# Altium footprint library PASSIVE_THD.PCBLIB: 248 footprints (part 3 of 16)
Each footprint in its own frame and in the unit in brackets; x right, y up, seen from the top. Pads: shape width x height; smd on the part's side, far side on the other; paste and mask are expansions set on the pad; w line width, h text height; cw(c..) or ccw(c..) is an arc to the next point about the centre after c.
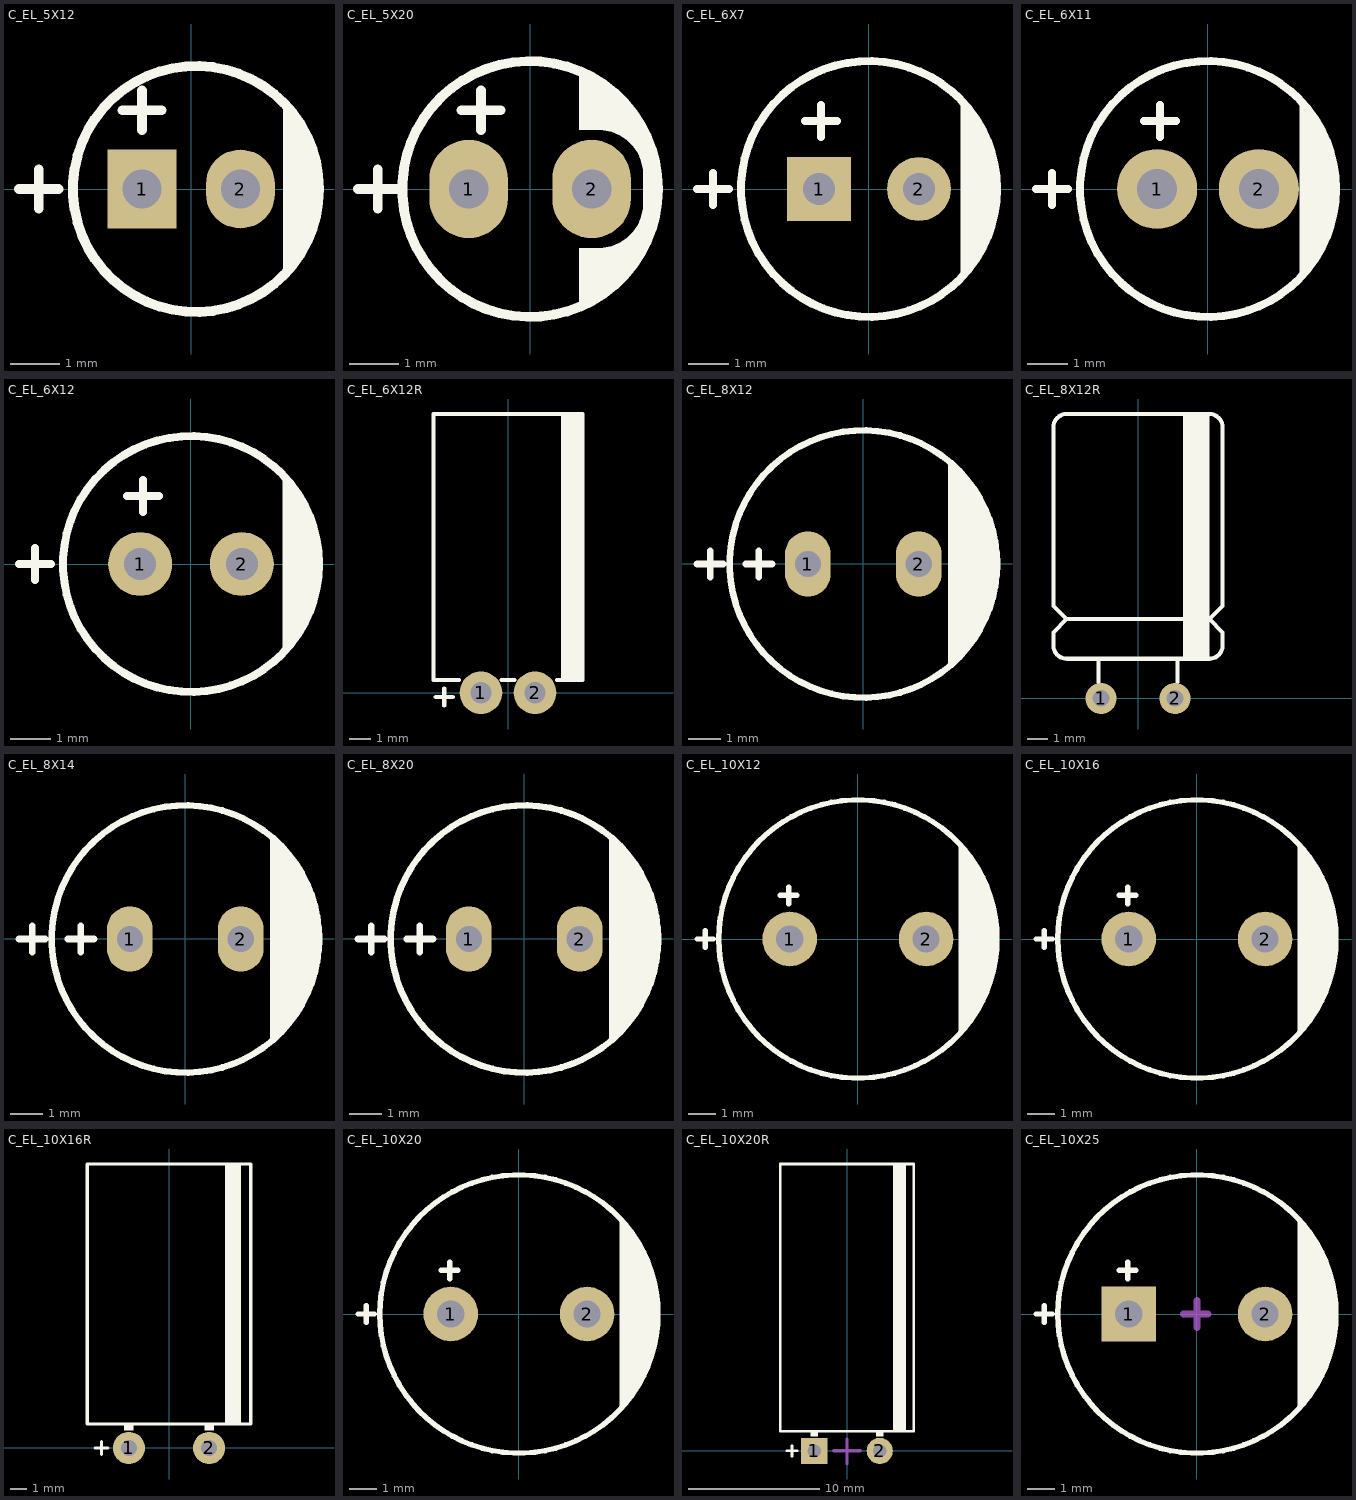
[diagram p2: the footprints below, top view; thin cyan lines are the x and y axes]

## C_EL_5X12 [mm] "Capacitor Electrolythic, D5X12H pitch: 2mm"
height 12
pads (2):
  rect 1.4x1.6 hole 0.8: 1(-1,0)
  oval 1.4x1.6 hole 0.8: 2(1,0)
TopOverlay:
  circle w0.2: c0.096,0 r2.5
  region: 1.865,-1.764 1.865,1.764 2.039,1.59 2.312,1.182 2.5,0.728 2.596,0.246 2.596,0 2.596,-0.246 2.5,-0.728 2.312,-1.182 2.039,-1.59
  lines w0.2: -3.5,0 -2.7,0 ; -3.1,-0.4 -3.1,0.4 ; -1.4,1.6 -0.6,1.6 ; -1,1.2 -1,2
3D body "User Library-CAP-EL5X12_R100_D200_H460.STEP": height 12.05, standoff -3.05, extent -2.54,-2.536 2.538,2.536

## C_EL_5X20 [mm] "Capacitor Electrolythic, D5X20H pitch: 2.5mm"
pads (2):
  oval 1.6x2 hole 0.8: 1(-1.25,0) 2(1.25,0)
TopOverlay:
  circle w0.2: c0,0 r2.6
  region: 1,-2.4 1,-1.2 1.4,-1.2 1.488,-1.196 1.661,-1.161 1.824,-1.094 1.971,-0.996 2.096,-0.871 2.194,-0.724 2.261,-0.561 2.296,-0.388 2.3,-0.3 2.3,0 2.6,0 2.6,-0.048 2.6,-0.298 2.502,-0.789 2.311,-1.251 2.033,-1.667 1.856,-1.844 1.8,-1.9
  region: 1,2.4 1,1.2 1.4,1.2 1.488,1.196 1.661,1.161 1.824,1.094 1.971,0.996 2.096,0.871 2.194,0.724 2.261,0.561 2.296,0.388 2.3,0.3 2.3,0 2.6,0 2.6,0.048 2.6,0.298 2.502,0.789 2.311,1.251 2.033,1.667 1.856,1.844 1.8,1.9
  lines w0.2: -3.5,0 -2.7,0 ; -3.1,-0.4 -3.1,0.4 ; -1.4,1.6 -0.6,1.6 ; -1,1.2 -1,2
3D body "CircuitWorks-ELECTROLITIC CAPACITOR RADIAL 5X11.SLDPRT": height 11.05, standoff -2.45, extent -2.5,-2.5 2.5,2.5

## C_EL_6X7 [mm] "Capacitor Electrolythic, D6.3X7.0H pitch: 2.5mm"
height 7
pads (2):
  rect 1.6x1.6 hole 0.8: 1(-1.25,0)
  round 1.6 hole 0.8: 2(1.25,0)
TopOverlay:
  circle w0.2: c0,0 r3.2
  region: 2.3,2.2 2.456,2.044 2.633,1.867 2.911,1.451 3.102,0.989 3.2,0.498 3.2,0.248 3.2,-0.248 3.2,-0.498 3.102,-0.989 2.911,-1.451 2.633,-1.867 2.456,-2.044 2.3,-2.2
  lines w0.2: -4.3,0 -3.5,0 ; -3.9,-0.4 -3.9,0.4 ; -1.6,1.7 -0.8,1.7 ; -1.2,1.3 -1.2,2.1
3D body "User Library-Cap electrolitic radial 6x7.STEP": height 7.3, standoff -1.2, extent -2.994,-2.993 2.999,3

## C_EL_6X11 [mm] "Cap Elec, D6.3X11.0H pitch: 2.5mm"
height 11
pads (2):
  round 2 hole 1: 1(-1.27,0) 2(1.27,0)
TopOverlay:
  circle w0.2: c0,0 r3.2
  region: 2.3,2.2 2.456,2.044 2.633,1.867 2.911,1.451 3.102,0.989 3.2,0.498 3.2,0.248 3.2,-0.248 3.2,-0.498 3.102,-0.989 2.911,-1.451 2.633,-1.867 2.456,-2.044 2.3,-2.2
  lines w0.2: -4.3,0 -3.5,0 ; -3.9,-0.4 -3.9,0.4 ; -1.6,1.7 -0.8,1.7 ; -1.2,1.3 -1.2,2.1
3D body "SW3dPS-Cap electro 6.3x11x2.5mm.STEP": height 2.51, standoff -12.03, extent -3.168,-3.175 3.175,3.176

## C_EL_6X12 [mm] "Capacitor Electrolythic, D6.3X12H pitch: 2.5mm"
height 12
pads (2):
  round 1.6 hole 0.8: 1(-1.27,0) 2(1.27,0)
TopOverlay:
  circle w0.2: c0,0 r3.2
  region: 2.3,2.2 2.456,2.044 2.633,1.867 2.911,1.451 3.102,0.989 3.2,0.498 3.2,0.248 3.2,-0.248 3.2,-0.498 3.102,-0.989 2.911,-1.451 2.633,-1.867 2.456,-2.044 2.3,-2.2
  lines w0.2: -4.3,0 -3.5,0 ; -3.9,-0.4 -3.9,0.4 ; -1.6,1.7 -0.8,1.7 ; -1.2,1.3 -1.2,2.1
3D body "User Library-Cap-EL(6_3x12-2_5).step": height 1.2, standoff -14, extent -3.14,-3.095 3.162,3.201

## C_EL_6X12R [mm] "Capacitor Electrolythic, D6.3X12.0H pitch: 2.5mm"
height 11
pads (2):
  round 2 hole 1: 1(-1.27,0) 2(1.27,0)
TopOverlay:
  rectangle: 2.5,0.6 3.5,13.1
  lines w0.2: -3.4,-0.2 -2.6,-0.2 ; -3,-0.6 -3,0.2 ; -2.3,0.6 -3.5,0.6 -3.5,13.1 3.5,13.1 3.5,0.6 2.3,0.6 ; -0.3,0.6 0.3,0.6
3D body "CAPAE250P680X1220_FLAT1.STEP": height 6.77, standoff -1.78, extent -3.372,-0.249 3.371,12.952

## C_EL_8X12 [mm] "Capacitor Electrolythic, D8.0X12.0H pitch: 3.5mm"
height 12
pads (2):
  oval 1.4x2 hole 0.8: 1(-1.7,0) 2(1.7,0)
TopOverlay:
  circle w0.2: c0,0 r4.1
  region: 2.6,3.172 2.775,3.028 3.092,2.703 3.371,2.346 3.609,1.959 3.803,1.549 3.951,1.12 4.05,0.678 4.1,0.227 4.1,0 2.6,0
  region: 2.6,-3.172 2.775,-3.028 3.092,-2.703 3.371,-2.346 3.609,-1.959 3.803,-1.549 3.951,-1.12 4.05,-0.678 4.1,-0.227 4.1,0 2.6,0
  lines w0.2: -5.1,0 -4.3,0 ; -4.7,-0.4 -4.7,0.4 ; -3.6,0 -2.8,0 ; -3.2,-0.4 -3.2,0.4
3D body "User Library-Cap electro 8x11_5x3_5mm.step": height 2.98, standoff -12.53, extent -4.017,-4.025 4.025,4.025

## C_EL_8X12R [mm] "Cap Elec, D8.0X12.0H pitch: 3.5mm, RIGHT ANGLE"
pads (2):
  round 1.5 hole 0.8: 1(-1.778,0) 2(1.778,0)
TopOverlay:
  region: 2.159,13.67 2.159,1.905 3.429,1.905 3.429,13.67
  lines w0.2: -1.905,0.762 -1.905,1.905 ; 1.905,0.787 1.905,1.905 ; -3.429,3.81 -4.064,4.445 -4.064,13.035 cw(c-3.429,13.035) -3.429,13.67 3.429,13.67 cw(c3.429,13.035) 4.064,13.035 4.064,4.445 3.429,3.81 ; -3.429,3.81 -4.064,3.175 -4.064,2.54 ccw(c-3.429,2.54) -3.429,1.905 3.429,1.905 ccw(c3.429,2.54) 4.064,2.54 4.064,3.175 3.429,3.81 ; -3.429,3.81 3.429,3.81
3D body "User Library-Cap electro 8x11_5x3_5mm RA.step": height 8.03, standoff -2, extent -4.025,-0.3 4.025,13.521

## C_EL_8X14 [mm] "Capacitor Electrolythic, D8X14H pitch: 3.5mm"
height 14
pads (2):
  oval 1.4x2 hole 0.8: 1(-1.7,0) 2(1.7,0)
TopOverlay:
  circle w0.2: c0,0 r4.1
  region: 2.6,3.172 2.775,3.028 3.092,2.703 3.371,2.346 3.609,1.959 3.803,1.549 3.951,1.12 4.05,0.678 4.1,0.227 4.1,0 2.6,0
  region: 2.6,-3.172 2.775,-3.028 3.092,-2.703 3.371,-2.346 3.609,-1.959 3.803,-1.549 3.951,-1.12 4.05,-0.678 4.1,-0.227 4.1,0 2.6,0
  lines w0.2: -5.1,0 -4.3,0 ; -4.7,-0.4 -4.7,0.4 ; -3.6,0 -2.8,0 ; -3.2,-0.4 -3.2,0.4
3D body "User Library-CAP-EL8X14_R150_D320_H570.STEP": height 14.6, standoff -2.7, extent -4.095,-4.1 4.1,4.1

## C_EL_8X20 [mm] "Capacitor Electrolythic, D8X14H pitch: 3.5mm"
height 14
pads (2):
  oval 1.4x2 hole 0.8: 1(-1.7,0) 2(1.7,0)
TopOverlay:
  circle w0.2: c0,0 r4.1
  region: 2.6,3.172 2.775,3.028 3.092,2.703 3.371,2.346 3.609,1.959 3.803,1.549 3.951,1.12 4.05,0.678 4.1,0.227 4.1,0 2.6,0
  region: 2.6,-3.172 2.775,-3.028 3.092,-2.703 3.371,-2.346 3.609,-1.959 3.803,-1.549 3.951,-1.12 4.05,-0.678 4.1,-0.227 4.1,0 2.6,0
  lines w0.2: -5.1,0 -4.3,0 ; -4.7,-0.4 -4.7,0.4 ; -3.6,0 -2.8,0 ; -3.2,-0.4 -3.2,0.4
3D body "CAP_RAD_D8x20_POL_BK.stp": height 22, standoff -2.5, extent -4.25,-4.244 4.25,4.244

## C_EL_10X12 [mm] "Capacitor Electrolythic, D10.0X12.0H pitch: 5.0mm"
height 12
pads (2):
  round 2 hole 1: 1(-2.5,0) 2(2.5,0)
TopOverlay:
  circle w0.2: c0,0 r5.1
  region: 3.7,3.38 3.866,3.214 4.164,2.851 4.425,2.46 4.646,2.046 4.826,1.612 4.962,1.163 5.054,0.702 5.1,0.235 5.1,0 3.7,0
  region: 3.7,-3.38 3.866,-3.214 4.164,-2.851 4.425,-2.46 4.646,-2.046 4.826,-1.612 4.962,-1.163 5.054,-0.702 5.1,-0.235 5.1,0 3.7,0
  lines w0.2: -5.9,0 -5.3,0 ; -5.6,-0.3 -5.6,0.3 ; -2.84,1.6 -2.24,1.6 ; -2.54,1.3 -2.54,1.9
3D body "ELE Radial 10x12.STEP": height 13.7, standoff -1.7, extent -5.069,-5.081 5.05,5.044

## C_EL_10X16 [mm] "Capacitor Electrolythic, D10.0X16.0H pitch: 5.0mm"
height 16
pads (2):
  round 2 hole 1: 1(-2.5,0) 2(2.5,0)
TopOverlay:
  circle w0.2: c0,0 r5.1
  region: 3.7,-3.38 3.866,-3.214 4.164,-2.851 4.425,-2.46 4.646,-2.046 4.826,-1.612 4.962,-1.163 5.054,-0.702 5.1,-0.235 5.1,0 3.7,0
  region: 3.7,3.38 3.866,3.214 4.164,2.851 4.425,2.46 4.646,2.046 4.826,1.612 4.962,1.163 5.054,0.702 5.1,0.235 5.1,0 3.7,0
  lines w0.2: -5.9,0 -5.3,0 ; -5.6,-0.3 -5.6,0.3 ; -2.84,1.6 -2.24,1.6 ; -2.54,1.3 -2.54,1.9
3D body "User Library-Cap-EL(10x16-5).step": height 16, standoff -3.3, extent -5,-5 5.002,5

## C_EL_10X16R [mm] "Capacitor Electrolythic, D10.0X16.0H pitch: 5.0mm"
height 16
pads (2):
  round 2 hole 1: 1(-2.5,0) 2(2.5,0)
TopOverlay:
  rectangle: 3.5,1.5 4.5,17.7
  rectangle: -2.8,1.1 -2.2,1.5
  region: 2.8,1.5 2.2,1.5 2.2,1.1 2.8,1.1
  lines w0.2: -4.6,0 -3.8,0 ; -4.2,-0.4 -4.2,0.4 ; -5.1,1.5 5.1,1.5 5.1,17.7 -5.1,17.7 -5.1,1.5
3D body "User Library-Cap electro 10x16x5_0mm RA.step": height 10.03, standoff -3.68, extent -5.025,-0.363 5.026,17.626

## C_EL_10X20 [mm] "Cap Elec, D10.0X20.0H pitch: 5.0mm, RB.2/.4"
height 20
pads (2):
  round 2 hole 1: 1(-2.5,0) 2(2.5,0)
TopOverlay:
  circle w0.2: c0,0 r5.1
  region: 3.7,3.38 3.866,3.214 4.164,2.851 4.425,2.46 4.646,2.046 4.826,1.612 4.962,1.163 5.054,0.702 5.1,0.235 5.1,0 3.7,0
  region: 3.7,-3.38 3.866,-3.214 4.164,-2.851 4.425,-2.46 4.646,-2.046 4.826,-1.612 4.962,-1.163 5.054,-0.702 5.1,-0.235 5.1,0 3.7,0
  lines w0.2: -5.9,0 -5.3,0 ; -5.6,-0.3 -5.6,0.3 ; -2.84,1.6 -2.24,1.6 ; -2.54,1.3 -2.54,1.9
3D body "CE_R200_D400_H800.step": height 20.62, standoff -2.6, extent -5.08,-5.1 5.08,5.038

## C_EL_10X20R [mm] "Capacitor Electrolythic, D10X20H pitch: 5.0mm"
height 40
pads (2):
  rect 2x2 hole 1: 1(-2.5,0)
  round 2 hole 1: 2(2.5,0)
TopOverlay:
  region: 2.8,1.5 2.2,1.5 2.2,1.1 2.8,1.1
  rectangle: -2.8,1.1 -2.2,1.5
  rectangle: 3.5,1.5 4.5,21.9
  lines w0.2: -4.6,0 -3.8,0 ; -4.2,-0.4 -4.2,0.4 ; -5.1,1.5 -5.1,21.9 5.1,21.9 5.1,1.5 -5.1,1.5
Mechanical13:
  lines w0.254: -1,0 1,0 ; 0,-1 0,0.9
3D body "cap_el_horizontal_d10_h20_p5_w0.6.stp": height 10.1, standoff -3, extent -5,-0.3 5.003,21.81

## C_EL_10X25 [mm] "Capacitor Electrolythic, D10X25H pitch: 5mm"
height 25
pads (2):
  rect 2x2 hole 1: 1(-2.5,0)
  round 2 hole 1: 2(2.5,0)
TopOverlay:
  circle w0.2: c0,0 r5.1
  region: 3.7,3.38 3.866,3.214 4.164,2.851 4.425,2.46 4.646,2.046 4.826,1.612 4.962,1.163 5.054,0.702 5.1,0.235 5.1,0 3.7,0
  region: 3.7,-3.38 3.866,-3.214 4.164,-2.851 4.425,-2.46 4.646,-2.046 4.826,-1.612 4.962,-1.163 5.054,-0.702 5.1,-0.235 5.1,0 3.7,0
  lines w0.2: -5.9,0 -5.3,0 ; -5.6,-0.3 -5.6,0.3 ; -2.84,1.6 -2.24,1.6 ; -2.54,1.3 -2.54,1.9
Mechanical13:
  lines w0.254: -0.5,0 0.4,0 ; 0,-0.5 0,0.5
3D body "User Library-Cap-EL(10x25-5).STEP": height 25, standoff -3.3, extent -5,-5 5.002,5